# Altium footprint library PcbLib1.PcbLib: 23 footprints (part 2 of 2)
Each footprint in its own frame and in the unit in brackets; x right, y up, seen from the top. Pads: shape width x height; smd on the part's side, far side on the other; paste and mask are expansions set on the pad; w line width, h text height; cw(c..) or ccw(c..) is an arc to the next point about the centre after c.
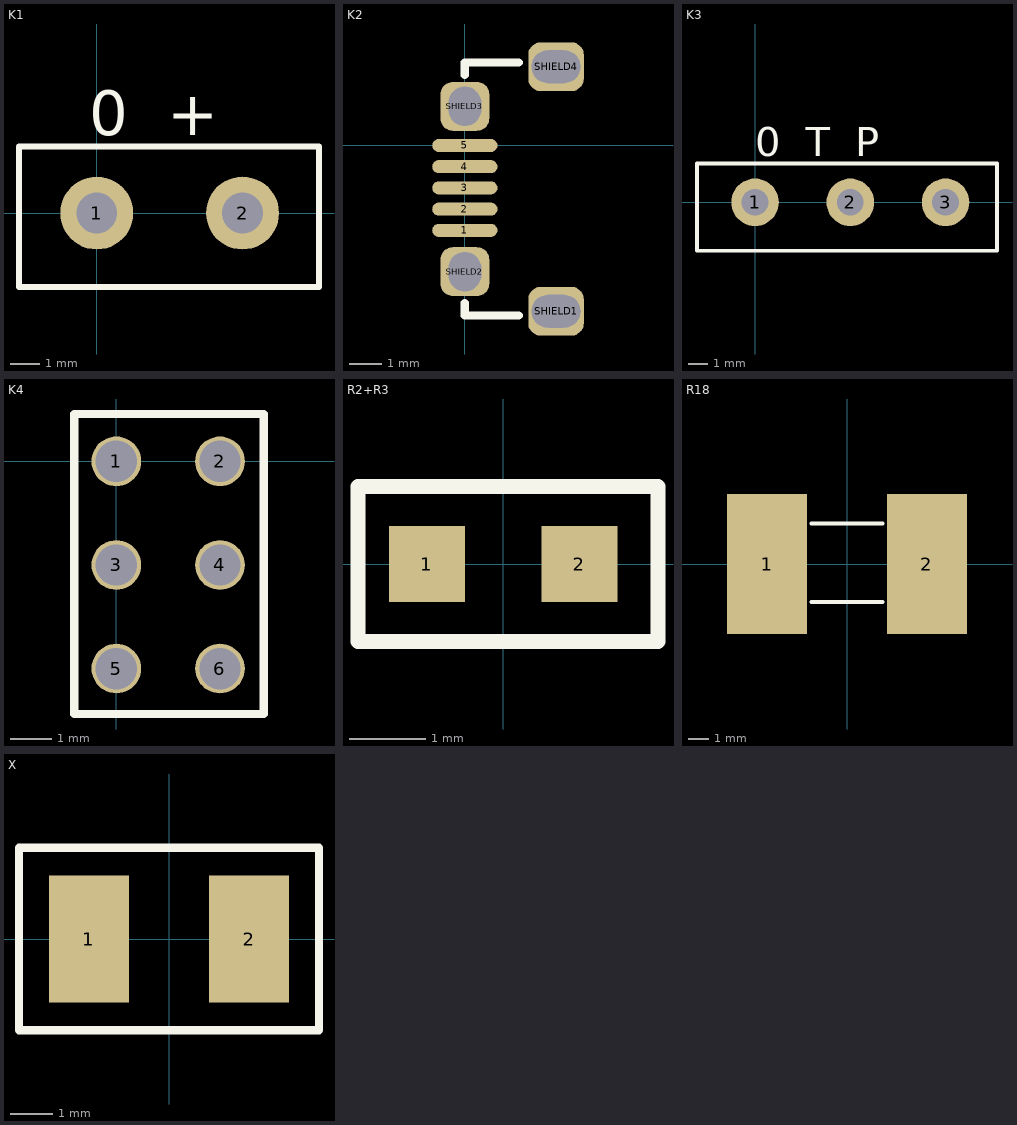
[diagram p1: the footprints below, top view; thin cyan lines are the x and y axes]

## K1 [mm]
pads (2):
  round 2.5 hole 1.4: 1(0,0) 2(5,0)
Top Overlay:
  lines w0.2: -2.667,-2.54 -2.667,2.286 7.62,2.286 7.62,-2.54 -2.667,-2.54
  text "0  +" at -0.254,2.667 h1.52

## K2 [mm]
pads (9):
  oval 2x0.4 smd: 1(0,-2.6) 2(0,-1.95) 3(0,-1.3) 4(0,-0.65) 5(0,0)
  rrect50% 1.7x1.5 hole 1 slot 1.5 at 0 deg: SHIELD1(2.794,-5.08) SHIELD4(2.794,2.413)
  rrect50% 1.5x1.5 hole 1.2 slot 1 at 0 deg: SHIELD2(0,-3.867) SHIELD3(0,1.2)
Top Overlay:
  lines w0.254: 0,-4.826 0,-5.207 1.651,-5.207 ; 0,2.159 0,2.54 1.651,2.54

## K3 [mm]
pads (3):
  round 2.5 hole 1.4: 1(0,0) 2(5,0) 3(10,0)
Top Overlay:
  lines w0.2: -3.048,-2.54 12.7,-2.54 12.7,2.032 -3.048,2.032 -3.048,-2.54
  text "0  T  P" at 0,2.413 h1.52

## K4 [mm]
pads (6):
  round 1.2 hole 1: 1(0,0) 2(2.5,0) 3(0,-2.5) 4(2.5,-2.5) 5(0,-5) 6(2.5,-5)
Top Overlay:
  lines w0.2: -1.016,-6.096 -1.016,1.143 3.556,1.143 3.556,-6.096 -1.016,-6.096

## R2+R3 [mm]
pads (2):
  rect 1x1 smd: 1(-1,0) 2(1,0)
Top Overlay:
  lines w0.2: -1.905,-1.016 2.032,-1.016 2.032,1.016 -1.905,1.016 -1.905,-1.016

## R18 [mm]
pads (2):
  rect 4x7 smd: 1(-4,0) 2(4,0)
Top Overlay:
  lines w0.2: -1.778,-1.905 1.778,-1.905 ; -1.778,2.032 1.778,2.032

## X [mm]
pads (2):
  rect 1.9x3 smd: 1(-1.9,0) 2(1.9,0)
Top Overlay:
  lines w0.2: -3.556,-2.159 3.556,-2.159 3.556,2.159 -3.556,2.159 -3.556,0.294 -3.556,-2.159